# Altium footprint library Energy-Meter.PcbLib: 30 footprints (part 2 of 2)
Each footprint in its own frame and in the unit in brackets; x right, y up, seen from the top. Pads: shape width x height; smd on the part's side, far side on the other; paste and mask are expansions set on the pad; w line width, h text height; cw(c..) or ccw(c..) is an arc to the next point about the centre after c.
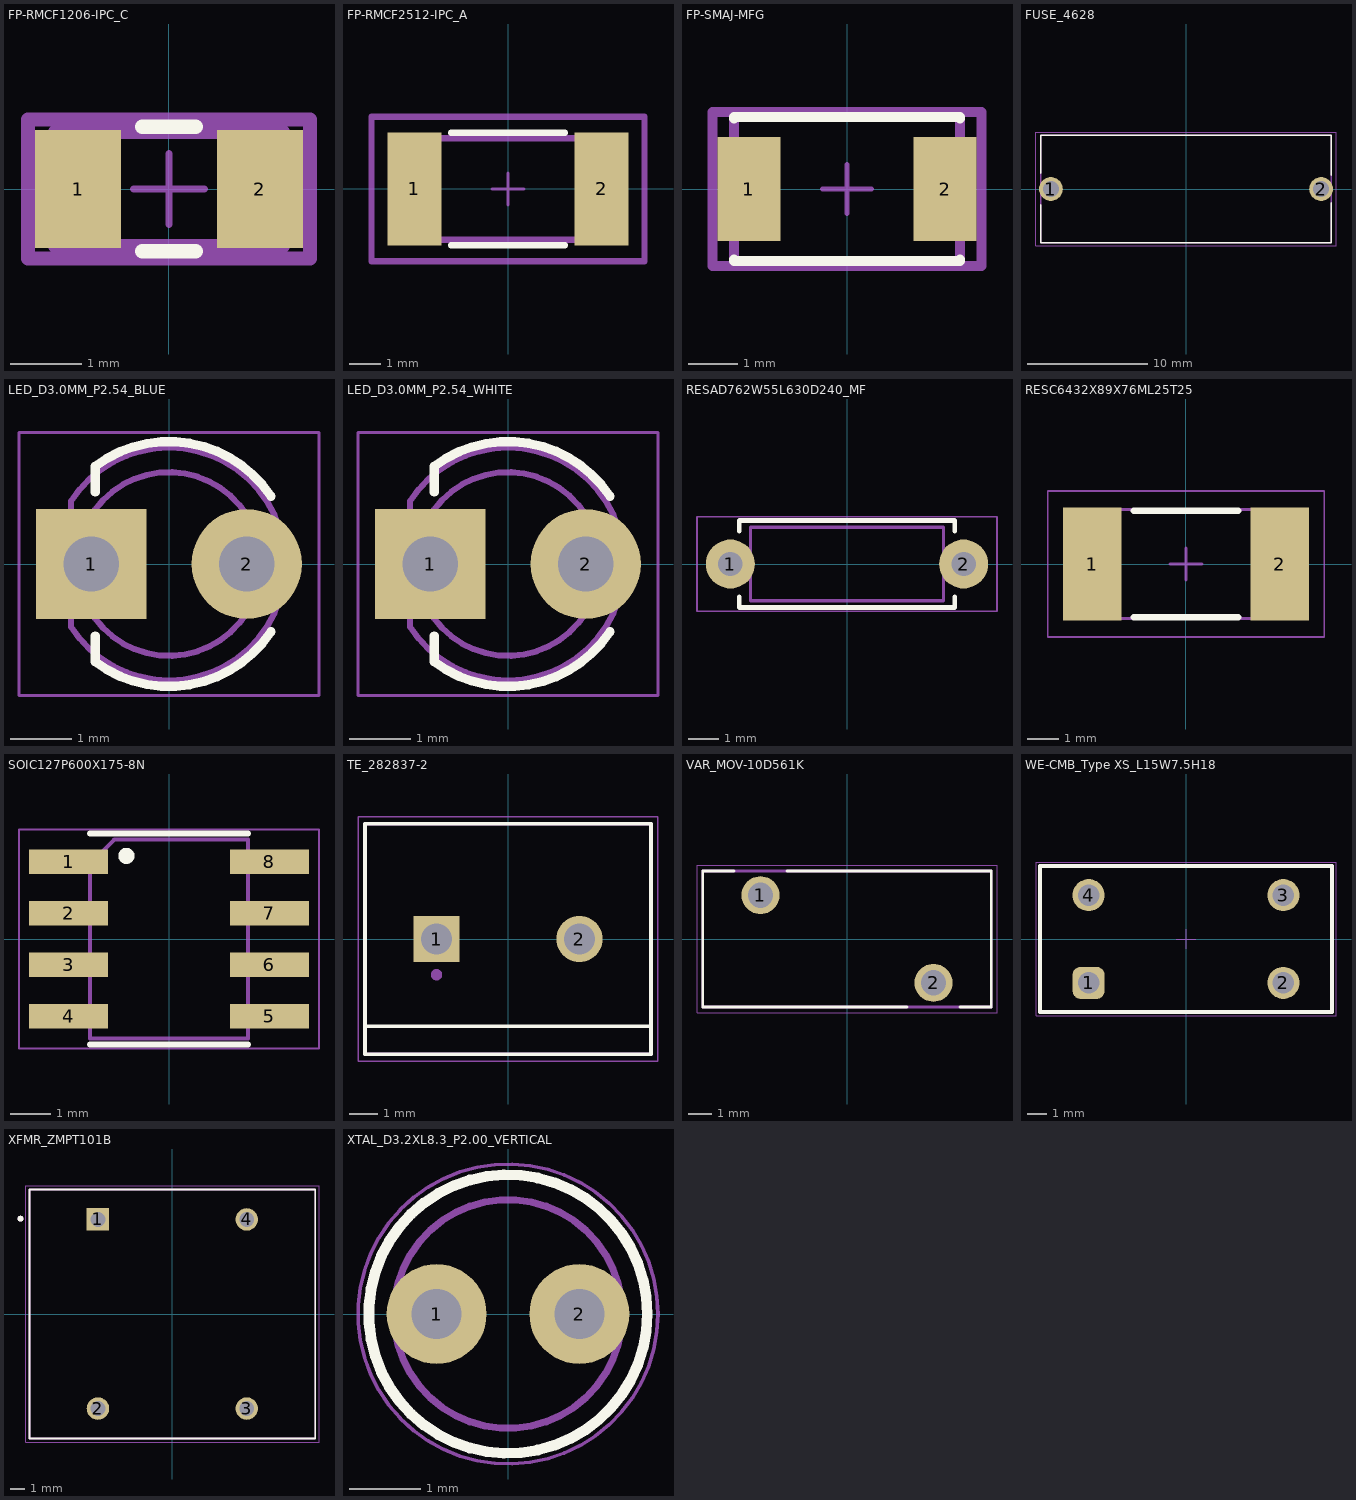
[diagram p1: the footprints below, top view; thin cyan lines are the x and y axes]

## FP-RMCF1206-IPC_C [mm]
pads (2):
  rect 1.204x1.658 smd paste+0 mask+0: 1(-1.276,0) 2(1.276,0)
Top Overlay:
  lines w0.2: -0.374,-0.875 0.374,-0.875 ; -0.374,0.875 0.374,0.875
Top Assembly:
  lines w0.2: -1.977,-0.975 -1.977,0.975 1.977,0.975 1.977,-0.975 -1.977,-0.975
  text ".Designator" at 0,0.188 h1
Top 3D Body:
  lines w0.2: -1.6,-0.8 -1.6,0.8 1.6,0.8 1.6,-0.8 -1.6,-0.8
Top Courtyard:
  lines w0.2: -1.977,-0.975 -1.977,0.975 1.977,0.975 1.977,-0.975 -1.977,-0.975
Top Component Center:
  lines w0.1: -0.5,0 0.5,0 ; 0,-0.5 0,0.5
3D body "Res_Stackpole_Electronics_RMCF1206JT1K00_eec.STEP": height 0.7, standoff 0, extent -1.6,-0.8 1.6,0.8

## FP-RMCF2512-IPC_A [mm]
height 9.3
pads (2):
  rect 1.704x3.555 smd paste+0 mask+0: 1(-2.951,0) 2(2.951,0)
Top Overlay:
  lines w0.2: -1.799,-1.777 1.799,-1.777 ; -1.799,1.777 1.799,1.777
Top Assembly:
  lines w0.2: -4.303,-2.277 -4.303,2.277 4.303,2.277 4.303,-2.277 -4.303,-2.277
  text ".Designator" at 0,0.188 h1
Top 3D Body:
  lines w0.2: -3.15,-1.6 -3.15,1.6 3.15,1.6 3.15,-1.6 -3.15,-1.6
Top Courtyard:
  lines w0.2: -4.303,-2.277 -4.303,2.277 4.303,2.277 4.303,-2.277 -4.303,-2.277
Top Component Center:
  lines w0.1: -0.5,0 0.5,0 ; 0,-0.5 0,0.5
3D body "Res_Stackpole_RMCF2512FT10M0_eec.STEP": height 0.7, standoff 0, extent -3.15,-1.6 3.15,1.6

## FP-SMAJ-MFG [mm]
height 9.3
pads (2):
  rect 1.27x2.1 smd paste+0 mask+0: 1(-1.985,0) 2(1.985,0)
Top Overlay:
  lines w0.2: -2.285,-1.425 -2.285,-1.46 2.285,-1.46 2.285,-1.425 ; -2.285,1.425 -2.285,1.46 2.285,1.46 2.285,1.425
Top Assembly:
  lines w0.2: -2.72,-1.56 2.72,-1.56 2.72,1.56 -2.72,1.56 -2.72,-1.56
  text ".Designator" at 0,0.188 h1
Top 3D Body:
  lines w0.2: -2.285,-1.46 2.285,-1.46 2.285,1.46 -2.285,1.46 -2.285,-1.46
Top Courtyard:
  lines w0.2: -2.72,-1.56 2.72,-1.56 2.72,1.56 -2.72,1.56 -2.72,-1.56
Top Component Center:
  lines w0.1: -0.5,0 0.5,0 ; 0,-0.5 0,0.5
3D body "Diode_Bourns_Inc_SMAJ5_0CA_eec.STEP": height 2.62, standoff 0, extent -2.605,-1.302 2.605,1.302

## FUSE_4628 [mm]
height 11.99
pads (2):
  round 1.98 hole 1.32: 1(-11.25,0) 2(11.25,0)
Top Overlay:
  lines w0.127: -12.105,-1.32 -12.105,-4.495 12.105,-4.495 12.105,-1.15 ; -12.105,1.32 -12.105,4.495 12.105,4.495 12.105,1.15
Top 3D Body:
  lines w0.127: -12.105,-4.495 -12.105,4.495 12.105,4.495 12.105,-4.495 -12.105,-4.495
Top Courtyard:
  lines w0.05: -12.49,-4.745 -12.49,4.745 12.49,4.745 12.49,-4.745 -12.49,-4.745
3D body "step_temp.STEP": height 11.99, standoff -3.96, extent -12.103,-4.496 12.103,4.496

## LED_D3.0MM_P2.54_BLUE [mm] "3mm round LED (blue, diffused), upright, 2.54mm pitch, pad 1 = cathode"
height 5.6
pads (2):
  rect 1.8x1.8 hole 0.9: 1(-1.27,0)
  round 1.8 hole 0.9: 2(1.27,0)
Top Overlay:
  lines w0.15: -1.204,-1.175 -1.204,-1.597 ccw(c0,0) 1.666,-1.106 ; -1.204,1.175 -1.204,1.597 cw(c0,0) 1.666,1.106
Top 3D Body:
  circle w0.1: c0,0 r1.5
  lines w0.1: -1.6,-1.025 ccw(c0,0) -1.6,1.025 -1.6,-1.025
Top Courtyard:
  lines w0.05: -2.45,-2.15 2.45,-2.15 2.45,2.15 -2.45,2.15 -2.45,-2.15
3D body "LED_3MM_DIFFUSED_BLUE_P2.54.step": height 5.6, standoff 0, extent -1.9,-1.9 1.9,1.9

## LED_D3.0MM_P2.54_WHITE [mm] "3mm round LED (white, diffused), upright, 2.54mm pitch, pad 1 = cathode"
height 5.6
pads (2):
  rect 1.8x1.8 hole 0.9: 1(-1.27,0)
  round 1.8 hole 0.9: 2(1.27,0)
Top Overlay:
  lines w0.15: -1.204,-1.175 -1.204,-1.597 ccw(c0,0) 1.666,-1.106 ; -1.204,1.175 -1.204,1.597 cw(c0,0) 1.666,1.106
Top 3D Body:
  circle w0.1: c0,0 r1.5
  lines w0.1: -1.6,-1.025 ccw(c0,0) -1.6,1.025 -1.6,-1.025
Top Courtyard:
  lines w0.05: -2.45,-2.15 2.45,-2.15 2.45,2.15 -2.45,2.15 -2.45,-2.15
3D body "LED_3MM_DIFFUSED_WHITE_P2.54.step": height 5.6, standoff 0, extent -1.9,-1.9 1.9,1.9

## RESAD762W55L630D240_MF [mm] "Axial resistor (metal film), horizontal, 7.62mm (300mil) pitch, body 6.3x2.4mm, lead 0.55mm"
height 2.41
pads (2):
  round 1.6 hole 0.8: 1(-3.81,0) 2(3.81,0)
Top Overlay:
  lines w0.15: -3.52,-1.075 -3.52,-1.42 3.52,-1.42 3.52,-1.075 ; -3.52,1.075 -3.52,1.42 3.52,1.42 3.52,1.075
Top 3D Body:
  lines w0.1: -3.81,0 -3.15,0 ; 3.15,0 3.81,0 ; -3.15,-1.2 3.15,-1.2 3.15,1.2 -3.15,1.2 -3.15,-1.2
Top Courtyard:
  lines w0.05: -4.9,-1.55 4.9,-1.55 4.9,1.55 -4.9,1.55 -4.9,-1.55
3D body "RES_MF_0W25_47K_1PCT_AXIAL_P7.62mm.step": height 2.41, standoff 0, extent -4.085,-1.212 4.085,1.212

## RESC6432X89X76ML25T25 [mm] "Chip Resistor, 2-Leads, Body 6.6x3.43mm, IPC Low Density"
height 0.89
pads (2):
  rect 1.85x3.55 smd: 1(-2.95,0) 2(2.95,0)
Top Overlay:
  lines w0.2: -1.65,-1.675 1.65,-1.675 ; -1.65,1.675 1.65,1.675
Top 3D Body:
  lines w0.1: -3.3,-1.715 -3.3,1.715 3.3,1.715 3.3,-1.715 -3.3,-1.715
Top Courtyard:
  lines w0.05: -4.35,-2.3 -4.35,2.3 4.35,2.3 4.35,-2.3 -4.35,-2.3
  lines w0.1: -0.5,0 0.5,0 ; 0,-0.5 0,0.5
3D body "DIOC6432X09M.step": height 0.89, standoff 0, extent -3.3,-1.715 3.3,1.715

## SOIC127P600X175-8N [mm] "SOP-8, body 3.90 x 4.90 mm, lead span 6.00 mm, pitch 1.27 mm, height 1.75 mm max. IPC-7351B nominal. HLW8032 / SOIC127P600X175-8N"
height 1.75
pads (8):
  rect 1.95x0.6 smd: 1(-2.475,1.905) 2(-2.475,0.635) 3(-2.475,-0.635) 4(-2.475,-1.905) 5(2.475,-1.905) 6(2.475,-0.635) 7(2.475,0.635) 8(2.475,1.905)
Top Overlay:
  circle w0.2: c-1.05,2.05 r0.1
  lines w0.15: -1.95,-2.6 1.95,-2.6 ; -1.95,2.6 1.95,2.6
Top 3D Body:
  lines w0.1: -1.95,-2.45 -1.95,1.85 -1.35,2.45 1.95,2.45 1.95,-2.45 -1.95,-2.45
Top Courtyard:
  lines w0.05: -3.7,-2.7 -3.7,2.7 3.7,2.7 3.7,-2.7 -3.7,-2.7
3D body "HLW8032_SOP8.step": height 1.6, standoff 0, extent -3,-2.45 3,2.45

## TE_282837-2 [mm]
height 9.3
pads (2):
  rect 1.65x1.65 / inner round 1.65 / far side rect 1.65x1.65 hole 1.1: 1(-2.54,0)
  round 1.65 hole 1.1: 2(2.54,0)
Top Overlay:
  lines w0.127: -5.08,-3.1 -5.08,-4.1 5.08,-4.1 5.08,-3.1 ; -5.08,-3.1 -5.08,4.1 5.08,4.1 5.08,-3.1 ; -5.08,-3.1 5.08,-3.1
Top 3D Body:
  circle w0.2: c-2.54,-1.27 r0.1
  lines w0.127: -5.08,-4.1 5.08,-4.1 5.08,4.1 -5.08,4.1 -5.08,-4.1
Top Courtyard:
  lines w0.05: -5.33,-4.35 5.33,-4.35 5.33,4.35 -5.33,4.35 -5.33,-4.35
3D body "step_temp.STEP": height 10, standoff -3.5, extent -5.68,-4.1 5.08,4.1

## VAR_MOV-10D561K [mm]
height 15.5
pads (2):
  round 1.65 hole 1.1: 1(-3.75,1.9) 2(3.75,-1.9)
Top Overlay:
  lines w0.127: -4.895,2.95 -6.25,2.95 -6.25,-2.95 2.605,-2.95 ; -2.605,2.95 6.25,2.95 6.25,-2.95 4.895,-2.95
Top 3D Body:
  lines w0.127: -6.25,-2.95 -6.25,2.95 6.25,2.95 6.25,-2.95 -6.25,-2.95
Top Courtyard:
  lines w0.05: -6.5,-3.2 -6.5,3.2 6.5,3.2 6.5,-3.2 -6.5,-3.2
3D body "step_temp.STEP": height 15.5, standoff -20, extent -6.25,-2.95 6.25,2.95

## WE-CMB_Type XS_L15W7.5H18 [mm] "Common Mode Power Line Choke, 4-Leads, body 15x7.5mm"
height 18
pads (4):
  rrect50% 1.65x1.65 hole 1.1: 1(-5,-2.25)
  round 1.65 hole 1.1: 2(5,-2.25) 3(5,2.25) 4(-5,2.25)
Top Overlay:
  lines w0.2: -7.5,-3.75 7.5,-3.75 7.5,3.75 -7.5,3.75 -7.5,-3.75
Top Designator:
  text ".Designator" at -7.498,-0.5 h1.5
Top Component Outline:
  lines w0.1: -7.5,-3.75 -7.5,3.75 7.5,3.75 7.5,-3.75 -7.5,-3.75
Top 3D Body:
  lines w0.1: -7.5,-3.75 7.5,-3.75 7.5,3.75 -7.5,3.75 -7.5,-3.75
Top Courtyard:
  lines w0.05: -0.5,0 0.5,0 ; 0,-0.5 0,0.5 ; -7.7,-3.95 7.7,-3.95 7.7,3.95 -7.7,3.95 -7.7,-3.95
3D body "744821039_XS.stp": height 17.57, standoff -2.45, extent -6.918,-3.75 6.918,3.75

## XFMR_ZMPT101B [mm]
height 18.8
pads (4):
  rect 1.508x1.508 / inner round 1.508 / far side rect 1.508x1.508 hole 1: 1(-5,6.35)
  round 1.508 hole 1: 2(-5,-6.35) 3(5,-6.35) 4(5,6.35)
Top Overlay:
  circle w0.2: c-10.2,6.4 r0.1
  lines w0.127: -9.6,-8.35 -9.6,8.35 9.6,8.35 9.6,-8.35 -9.6,-8.35
Top 3D Body:
  circle w0.2: c-10.2,6.4 r0.1
  lines w0.127: -9.6,-8.35 9.6,-8.35 9.6,8.35 -9.6,8.35 -9.6,-8.35
Top Courtyard:
  lines w0.05: -9.85,-8.6 9.85,-8.6 9.85,8.6 -9.85,8.6 -9.85,-8.6
3D body "step_temp.STEP": height 18.8, standoff -3.5, extent -9.6,-8.35 9.6,8.35

## XTAL_D3.2XL8.3_P2.00_VERTICAL [mm] "Cylindrical watch crystal, 3.2 mm dia x 8.3 mm can, through hole vertical, 2.00 mm pitch, 0.70 mm holes. AB38T / ECS-3X8 / DT-38 and equivalents"
height 9.3
pads (2):
  round 1.4 hole 0.7: 1(-1,0) 2(1,0)
Top Overlay:
  circle w0.15: c0,0 r1.95
Top 3D Body:
  circle w0.1: c0,0 r1.6
Top Courtyard:
  circle w0.05: c0,0 r2.1
3D body "XTAL_32768_D3x8_Vertical.step": height 9.3, standoff -1.6, extent -1.6,-1.588 1.6,1.588